# Altium schematic symbol library 282836-4.SchLib: 1 symbol
Pins are listed as number, name and electrical type; pins without a type are passive.

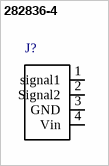
[diagram p0: symbol 282836-4]

## 282836-4
designator J?  (value not drawn)
4 Position Wire to Board Terminal Block Horizontal with Board 0.197 _5.00mm_ Through Hole; Number_of_Positions: 4; MF: TE Connectivity; Centerline_Pitch: 5 mm[.197 in]; TE_purchase_URL: https://www.te.com/usa-en/product-282836-4.html?te_bu=Cor&te_type=disp&te_campaign=seda_glo_cor-seda-global-disp-prtnr-fy19-seda-model-bom-cta_sma-317_1&elqCampaignId=32493; MP: 282836-4; Package: None; Availability: Unavailable; SnapEDA_Link: https://www.snapeda.com/parts/282836-4/TE%20Connectivity%20AMP%20Connectors/view-part/493249/?ref=snap; EU_RoHS_Compliance: Compliant with Exemptions; Price: None; Value: *
footprint *TE_282836-4
pins: 1 signal1, 2 Signal2, 3 GND, 4 Vin